# EAGLE library part PCA9685 (library SparkFun-DigitalIC)
16-channel 12-bit PWM I2C interface Internal Oscillator 40Hz to 1kHz Can be totem pole or open collector 2.3V to 5.5V
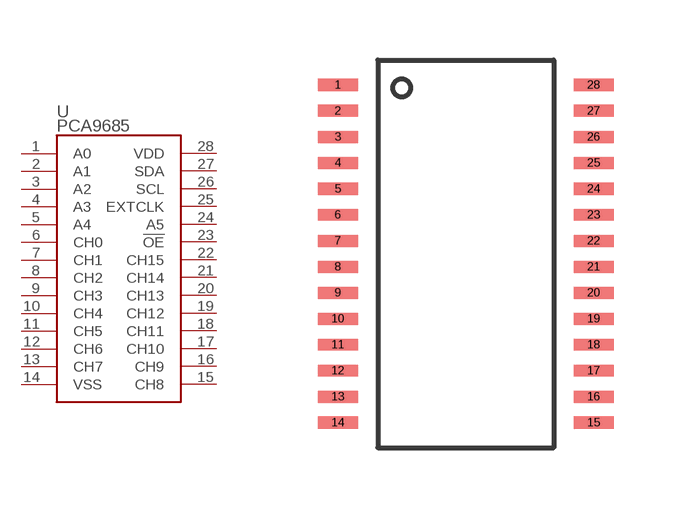
[diagram p66: symbol with the pads of TSSOP-28_4MM; footprint TSSOP-28_4MM]

Designator prefix U

## PCA9685 (PROD_ID: IC-12240; VALUE: PCA9685)  [TSSOP-28_4MM]
1  A0
2  A1
3  A2
4  A3
5  A4
6  CH0
7  CH1
8  CH2
9  CH3
10  CH4
11  CH5
12  CH6
13  CH7
14  VSS
15  CH8
16  CH9
17  CH10
18  CH11
19  CH12
20  CH13
21  CH14
22  CH15
23  !OE
24  A5
25  EXTCLK
26  SCL
27  SDA
28  VDD

## Footprint TSSOP-28_4MM (pad centres in mm)
smd 1 x 0.3: 1 -3.2,4.225; 2 -3.2,3.575; 3 -3.2,2.925; 4 -3.2,2.275; 5 -3.2,1.625; 6 -3.2,0.975; 7 -3.2,0.325; 8 -3.2,-0.325; 9 -3.2,-0.975; 10 -3.2,-1.625; 11 -3.2,-2.275; 12 -3.2,-2.925; 13 -3.2,-3.575; 14 -3.2,-4.225; 15 3.2,-4.225; 16 3.2,-3.575; 17 3.2,-2.925; 18 3.2,-2.275; 19 3.2,-1.625; 20 3.2,-0.975; 21 3.2,-0.325; 22 3.2,0.325; 23 3.2,0.975; 24 3.2,1.625; 25 3.2,2.275; 26 3.2,2.925; 27 3.2,3.575; 28 3.2,4.225